# EAGLE library part AD9854 (library analog-devices)
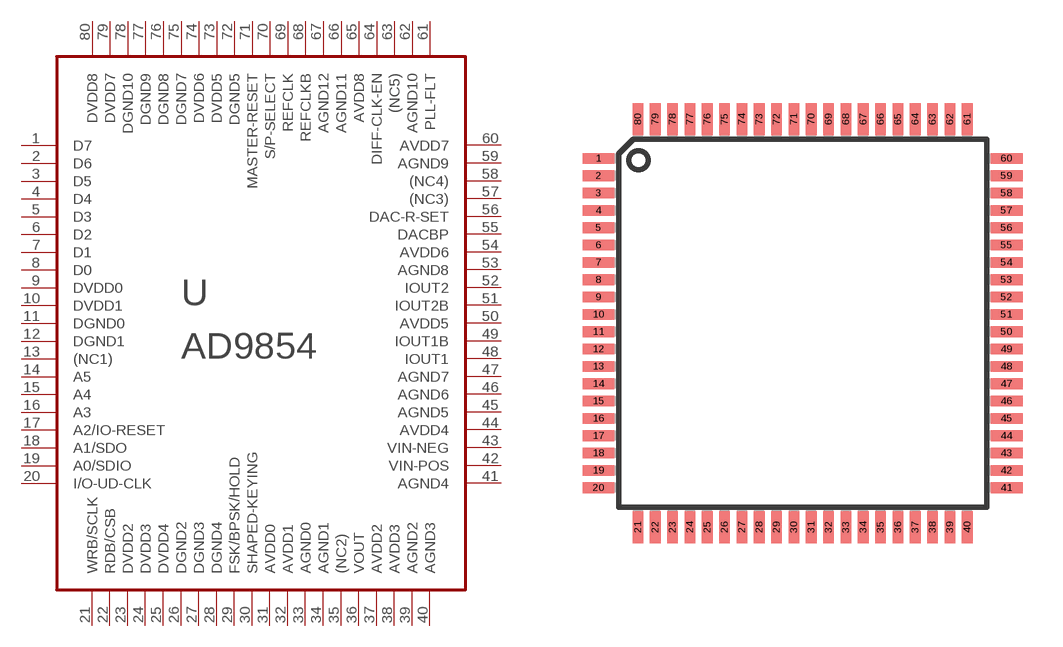
[diagram p23: symbol with the pads of TQFP80-917; footprint TQFP80-917]

Designator prefix U

## AD9854-(TQFP)  [TQFP80-917]
1  D7
2  D6
3  D5
4  D4
5  D3
6  D2
7  D1
8  D0
9  DVDD0
10  DVDD1
11  DGND0
12  DGND1
13  (NC1)
14  A5
15  A4
16  A3
17  A2/IO-RESET
18  A1/SDO
19  A0/SDIO
20  I/O-UD-CLK
21  WRB/SCLK
22  RDB/CSB
23  DVDD2
24  DVDD3
25  DVDD4
26  DGND2
27  DGND3
28  DGND4
29  FSK/BPSK/HOLD
30  SHAPED-KEYING
31  AVDD0
32  AVDD1
33  AGND0
34  AGND1
35  (NC2)
36  VOUT
37  AVDD2
38  AVDD3
39  AGND2
40  AGND3
41  AGND4
42  VIN-POS
43  VIN-NEG
44  AVDD4
45  AGND5
46  AGND6
47  AGND7
48  IOUT1
49  IOUT1B
50  AVDD5
51  IOUT2B
52  IOUT2
53  AGND8
54  AVDD6
55  DACBP
56  DAC-R-SET
57  (NC3)
58  (NC4)
59  AGND9
60  AVDD7
61  PLL-FLT
62  AGND10
63  (NC5)
64  DIFF-CLK-EN
65  AVDD8
66  AGND11
67  AGND12
68  REFCLKB
69  REFCLK
70  S/P-SELECT
71  MASTER-RESET
72  DGND5
73  DVDD5
74  DVDD6
75  DGND7
76  DGND8
77  DGND9
78  DGND10
79  DVDD7
80  DVDD8

## Footprint TQFP80-917 (pad centres in mm)
Thin Quad Flat Pack
smd 1.2 x 0.4: 1 -7.65,4.905; 2 -7.65,4.255; 3 -7.65,3.605; 4 -7.65,2.955; 5 -7.65,2.305; 6 -7.65,1.655; 7 -7.65,1.005; 8 -7.65,0.355; 9 -7.65,-0.295; 10 -7.65,-0.945; 11 -7.65,-1.595; 12 -7.65,-2.245; 13 -7.65,-2.895; 14 -7.65,-3.545; 15 -7.65,-4.195; 16 -7.65,-4.845; 17 -7.65,-5.495; 18 -7.65,-6.145; 19 -7.65,-6.795; 20 -7.65,-7.445; 41 7.65,-7.445; 42 7.65,-6.795; 43 7.65,-6.145; 44 7.65,-5.495; 45 7.65,-4.845; 46 7.65,-4.195; 47 7.65,-3.545; 48 7.65,-2.895; 49 7.65,-2.245; 50 7.65,-1.595; 51 7.65,-0.945; 52 7.65,-0.295; 53 7.65,0.355; 54 7.65,1.005; 55 7.65,1.655; 56 7.65,2.305; 57 7.65,2.955; 58 7.65,3.605; 59 7.65,4.255; 60 7.65,4.905
smd 0.4 x 1.2: 21 -6.175,-8.92; 22 -5.525,-8.92; 23 -4.875,-8.92; 24 -4.225,-8.92; 25 -3.575,-8.92; 26 -2.925,-8.92; 27 -2.275,-8.92; 28 -1.625,-8.92; 29 -0.975,-8.92; 30 -0.325,-8.92; 31 0.325,-8.92; 32 0.975,-8.92; 33 1.625,-8.92; 34 2.275,-8.92; 35 2.925,-8.92; 36 3.575,-8.92; 37 4.225,-8.92; 38 4.875,-8.92; 39 5.525,-8.92; 40 6.175,-8.92; 61 6.175,6.38; 62 5.525,6.38; 63 4.875,6.38; 64 4.225,6.38; 65 3.575,6.38; 66 2.925,6.38; 67 2.275,6.38; 68 1.625,6.38; 69 0.975,6.38; 70 0.325,6.38; 71 -0.325,6.38; 72 -0.975,6.38; 73 -1.625,6.38; 74 -2.275,6.38; 75 -2.925,6.38; 76 -3.575,6.38; 77 -4.225,6.38; 78 -4.875,6.38; 79 -5.525,6.38; 80 -6.175,6.38